# Altium footprint library 4AD_K7.PcbLib: 51 footprints (part 4 of 4)
Each footprint in its own frame and in the unit in brackets; x right, y up, seen from the top. Pads: shape width x height; smd on the part's side, far side on the other; paste and mask are expansions set on the pad; w line width, h text height; cw(c..) or ccw(c..) is an arc to the next point about the centre after c.
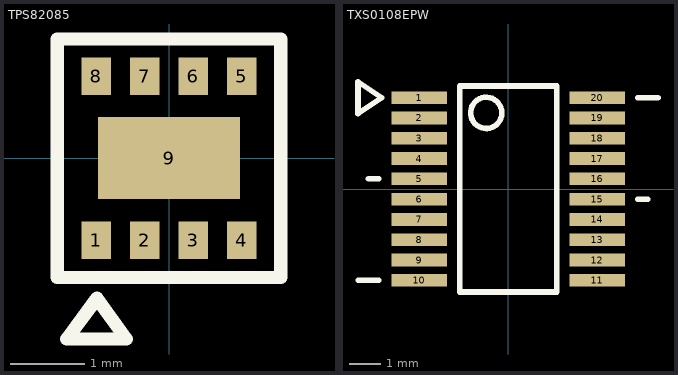
[diagram p3: the footprints below, top view; thin cyan lines are the x and y axes]

## TPS82085 [mm]
pads (9):
  rect 0.4x0.5 smd: 1(-0.975,-1.1) 2(-0.325,-1.1) 3(0.325,-1.1) 4(0.975,-1.1) 5(0.975,1.1) 6(0.325,1.1) 7(-0.325,1.1) 8(-0.975,1.1)
  rect 1.9x1.1 smd: 9(0,0)
Top Overlay:
  lines w0.178: -1.5,-1.6 -1.5,1.6 1.5,1.6 1.5,-1.6 -1.5,-1.6 ; -1.373,-2.426 -0.965,-1.88 -0.573,-2.426 -1.373,-2.426

## TXS0108EPW [mm]
pads (20):
  rect 1.778x0.406 smd: 1(-2.85,2.925) 2(-2.85,2.275) 3(-2.85,1.625) 4(-2.85,0.975) 5(-2.85,0.325) 6(-2.85,-0.325) 7(-2.85,-0.975) 8(-2.85,-1.625) 9(-2.85,-2.275) 10(-2.85,-2.925) 11(2.85,-2.925) 12(2.85,-2.275) 13(2.85,-1.625) 14(2.85,-0.975) 15(2.85,-0.325) 16(2.85,0.325) 17(2.85,0.975) 18(2.85,1.625) 19(2.85,2.275) 20(2.85,2.925)
Top Overlay:
  circle w0.178: c-0.703,2.438 r0.5
  lines w0.178: -4.8,-2.925 -4.15,-2.925 ; -4.475,0.325 -4.15,0.325 ; 4.15,-0.325 4.475,-0.325 ; 4.15,2.925 4.8,2.925 ; -4.812,2.417 -4.812,3.433 -4.05,2.925 -4.812,2.417 ; -1.55,-3.3 1.55,-3.3 1.55,3.3 -1.55,3.3 -1.55,-3.3

## XTAL-3225 25M [mm]